# Altium footprint library DEGSON_DG25.PcbLib: 1 footprints
Each footprint in its own frame and in the unit in brackets; x right, y up, seen from the top. Pads: shape width x height; smd on the part's side, far side on the other; paste and mask are expansions set on the pad; w line width, h text height; cw(c..) or ccw(c..) is an arc to the next point about the centre after c.
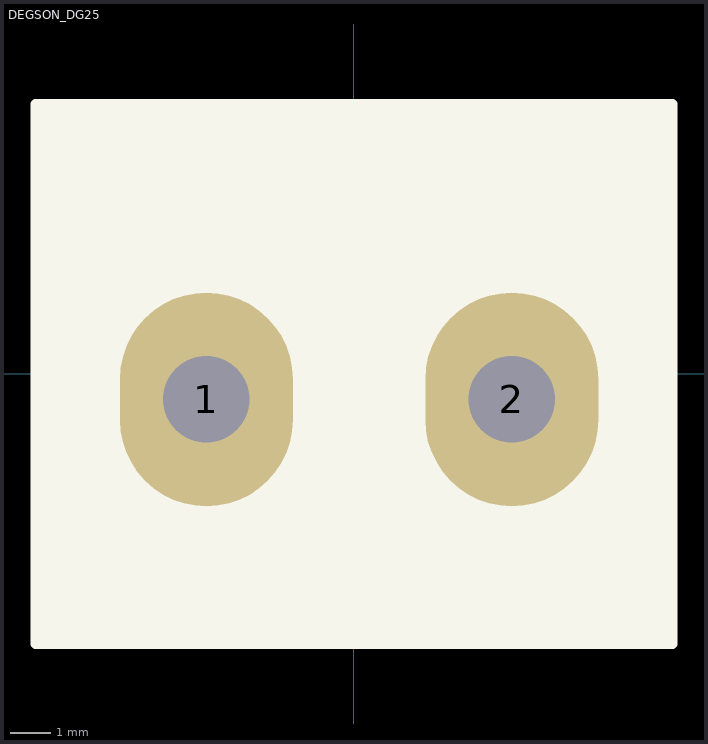
[diagram p0: the footprint, top view; thin cyan lines are the x and y axes]

## DEGSON_DG25 [mil]
pads (2):
  oval 170x210 hole 85: 1(-145,-25) 2(155,-25)
Top Overlay:
  rectangle: -312.5,-265 312.5,265
  lines w10: -312.5,-265 312.5,-265 312.5,265 -312.5,265 -312.5,-265
Bottom Overlay:
  lines w10: -312.5,-265 312.5,-265 312.5,265 -312.5,265 -312.5,-265
3D body "DEGSON DG25 300V 15A.STEP": height 588.75, standoff -184.87, extent -312.99,-264.76 312.99,264.76